# Altium schematic symbol library ADC_Klipper_Board.SchLib: 23 symbols
Pins are listed as number, name and electrical type; pins without a type are passive.

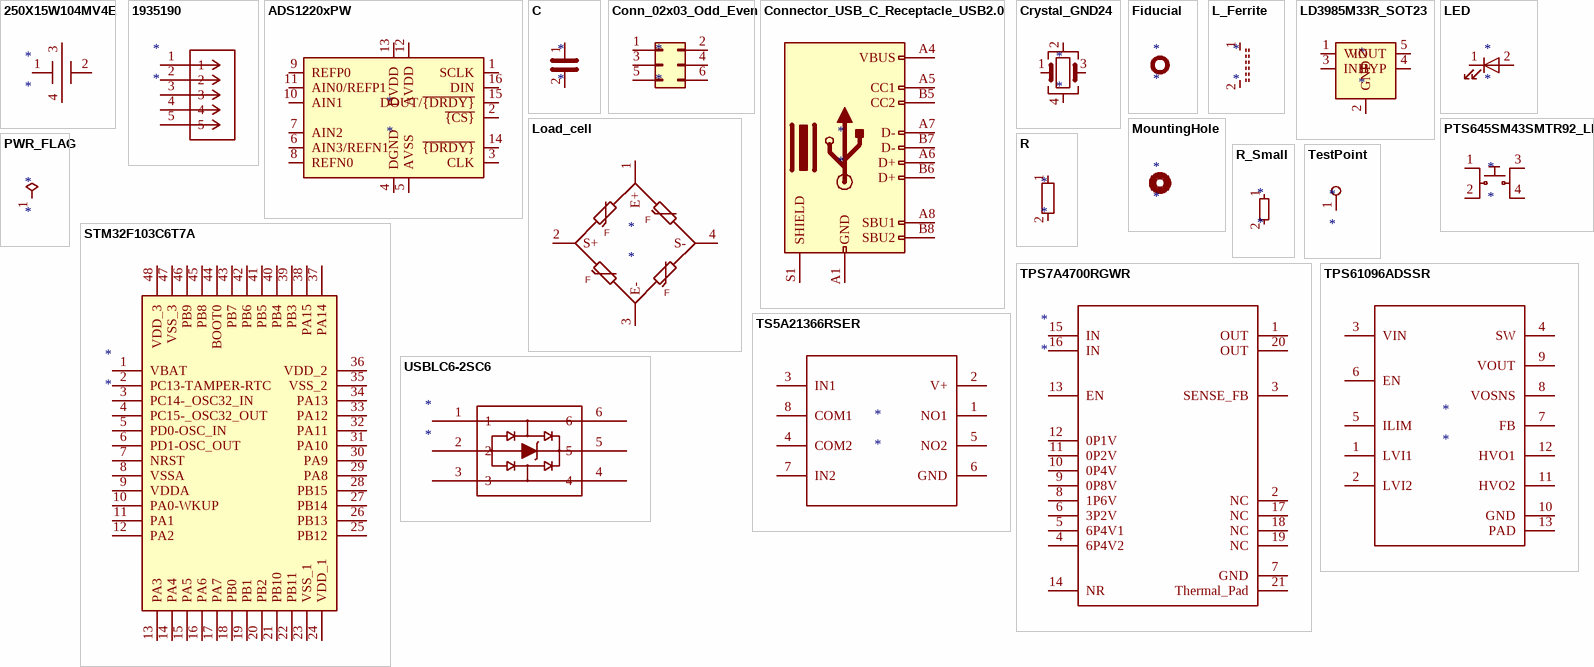
[diagram p0: symbols 250X15W104MV4E to USBLC6-2SC6]

## 250X15W104MV4E
designator *
pins: 1, 2, 3, 4

## 1935190
designator *
pins: 1, 2, 3, 4, 5

## ADS1220xPW
designator *
pins: 1 SCLK, 2 ~{{CS}}, 3 CLK, 4 DGND, 5 AVSS, 6 AIN3/REFN1, 7 AIN2, 8 REFN0, 9 REFP0, 10 AIN1, 11 AIN0/REFP1, 12 AVDD, 13 DVDD, 14 ~{{DRDY}}, 15 DOUT/~{{DRDY}}, 16 DIN

## C
designator *
pins: 1, 2

## Conn_02x03_Odd_Even
designator *
pins: 1 Pin_1, 2 Pin_2, 3 Pin_3, 4 Pin_4, 5 Pin_5, 6 Pin_6

## Connector_USB_C_Receptacle_USB2.0
designator *
pins: A1 GND, A4 VBUS, A5 CC1, A6 D+, A7 D-, A8 SBU1, A9 VBUS hidden, A12 GND hidden, B1 GND hidden, B4 VBUS hidden, B5 CC2, B6 D+, B7 D-, B8 SBU2, B9 VBUS hidden, B12 GND hidden, S1 SHIELD

## Crystal_GND24
designator *
pins: 1, 2, 3, 4

## Fiducial
designator *

## L_Ferrite
designator *
pins: 1, 2

## LD3985M33R_SOT23
designator *
pins: 1 VIN, 2 GND, 3 INH, 4 BYP, 5 VOUT

## LED
designator *
pins: 1 K, 2 A

## Load_cell
designator *
pins: 1 E+, 2 S+, 3 E-, 4 S-
text: F

## MountingHole
designator *

## PTS645SM43SMTR92_LFS
designator *
pins: 1, 2, 3, 4

## PWR_FLAG
designator *  (graphical)
pins: 1

## R
designator *
pins: 1, 2

## R_Small
designator *
pins: 1, 2

## STM32F103C6T7A
designator *
pins: 1 VBAT, 2 PC13-TAMPER-RTC, 3 PC14-_OSC32_IN, 4 PC15-_OSC32_OUT, 5 PD0-OSC_IN, 6 PD1-OSC_OUT, 7 NRST, 8 VSSA, 9 VDDA, 10 PA0-WKUP, 11 PA1, 12 PA2, 13 PA3, 14 PA4, 15 PA5, 16 PA6, 17 PA7, 18 PB0, 19 PB1, 20 PB2, 21 PB10, 22 PB11, 23 VSS_1, 24 VDD_1, 25 PB12, 26 PB13, 27 PB14, 28 PB15, 29 PA8, 30 PA9, 31 PA10, 32 PA11, 33 PA12, 34 PA13, 35 VSS_2, 36 VDD_2, 37 PA14, 38 PA15, 39 PB3, 40 PB4, 41 PB5, 42 PB6, 43 PB7, 44 BOOT0, 45 PB8, 46 PB9, 47 VSS_3, 48 VDD_3

## TestPoint
designator *
pins: 1

## TPS7A4700RGWR
designator *
pins: 1 OUT, 2 NC, 3 SENSE_FB, 4 6P4V2, 5 6P4V1, 6 3P2V, 7 GND, 8 1P6V, 9 0P8V, 10 0P4V, 11 0P2V, 12 0P1V, 13 EN, 14 NR, 15 IN, 16 IN, 17 NC, 18 NC, 19 NC, 20 OUT, 21 Thermal_Pad

## TPS61096ADSSR
designator *
pins: 1 LVI1, 2 LVI2, 3 VIN, 4 SW, 5 ILIM, 6 EN, 7 FB, 8 VOSNS, 9 VOUT, 10 GND, 11 HVO2, 12 HVO1, 13 PAD

## TS5A21366RSER
designator *
pins: 1 NO1, 2 V+, 3 IN1, 4 COM2, 5 NO2, 6 GND, 7 IN2, 8 COM1

## USBLC6-2SC6
designator *
pins: 1, 2, 3, 4, 5, 6